# Altium integrated library rodgel.IntLib: 579 symbols (part 4 of 4)
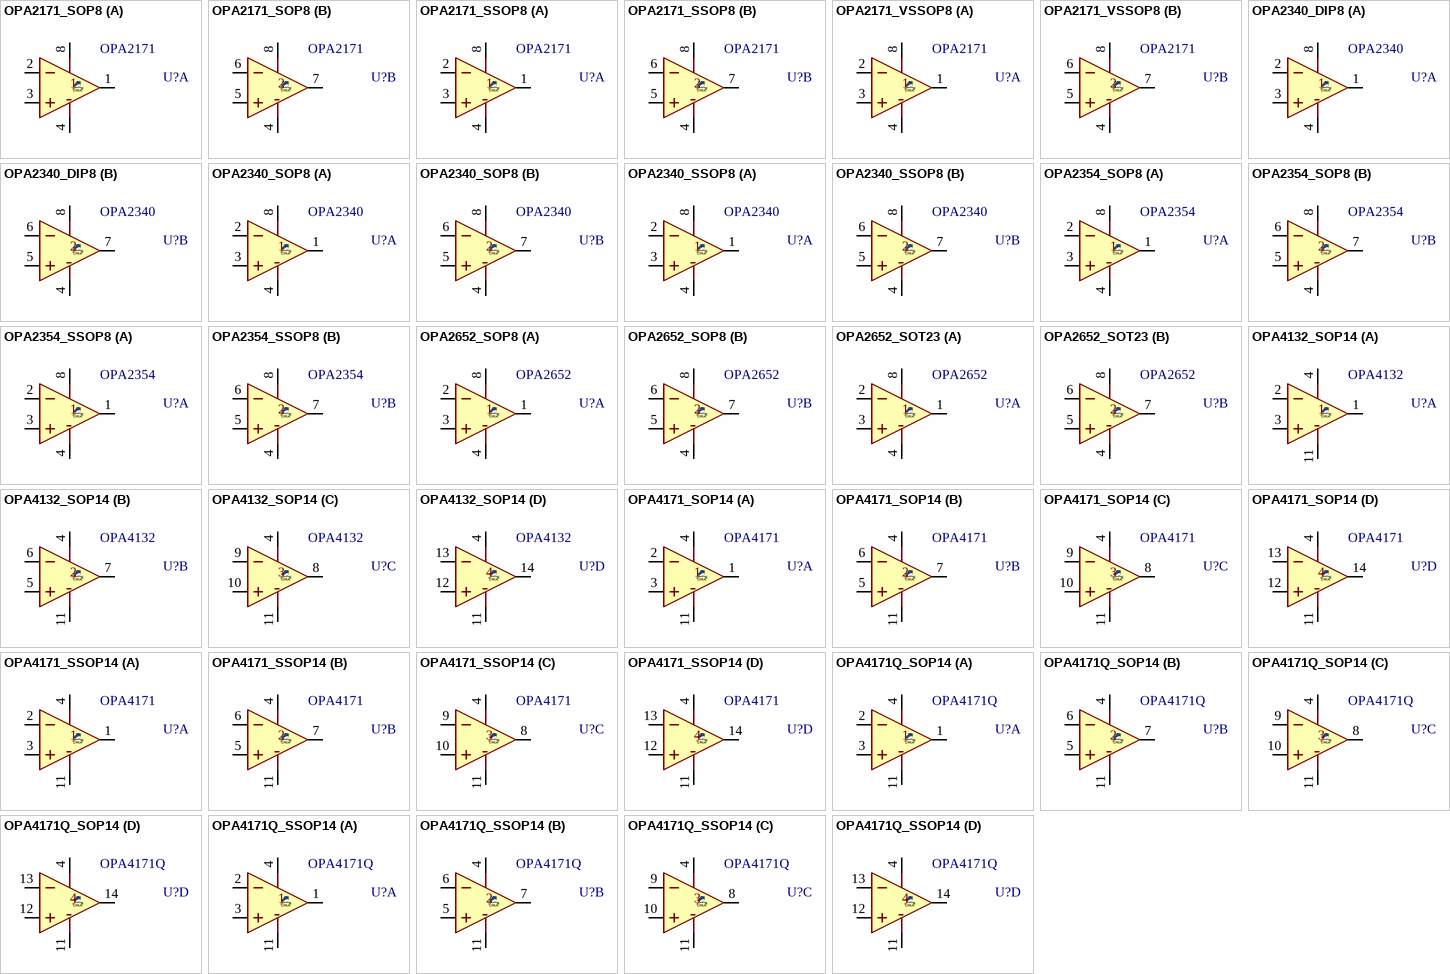
[diagram p20: symbols OPA2171_SOP8 to OPA4171Q_SSOP14]

## OPA4171Q_SSOP14
designator U?, comment OPA4171Q
AMP, Low Noise, Low Drift, Single-Supply; MANF: Texas Instruments; MANF_P#: OPA4171AQPWRQ1; PARAM2: 2.7~36V, ±1.35~±18V, 3MHz BW; PARAM: 8pA input, 14nV/√Hz, -40~125°C; PRICE: 3$; VALUE: OPA4171Q
footprint SOG65_14 (PW TSSOP (TI), MO-153-AB (JEDEC), 14Lead, pitch: 0.65mm, 5x4.4x1.2mm)
part A pins: 1 OUT, 2 IN-, 3 IN+, 4 V+, 11 V-
part B pins: 4 V+, 5 IN+, 6 IN-, 7 OUT, 11 V-
part C pins: 4 V+, 8 OUT, 9 IN-, 10 IN+, 11 V-
part D pins: 4 V+, 11 V-, 12 IN+, 13 IN-, 14 OUT

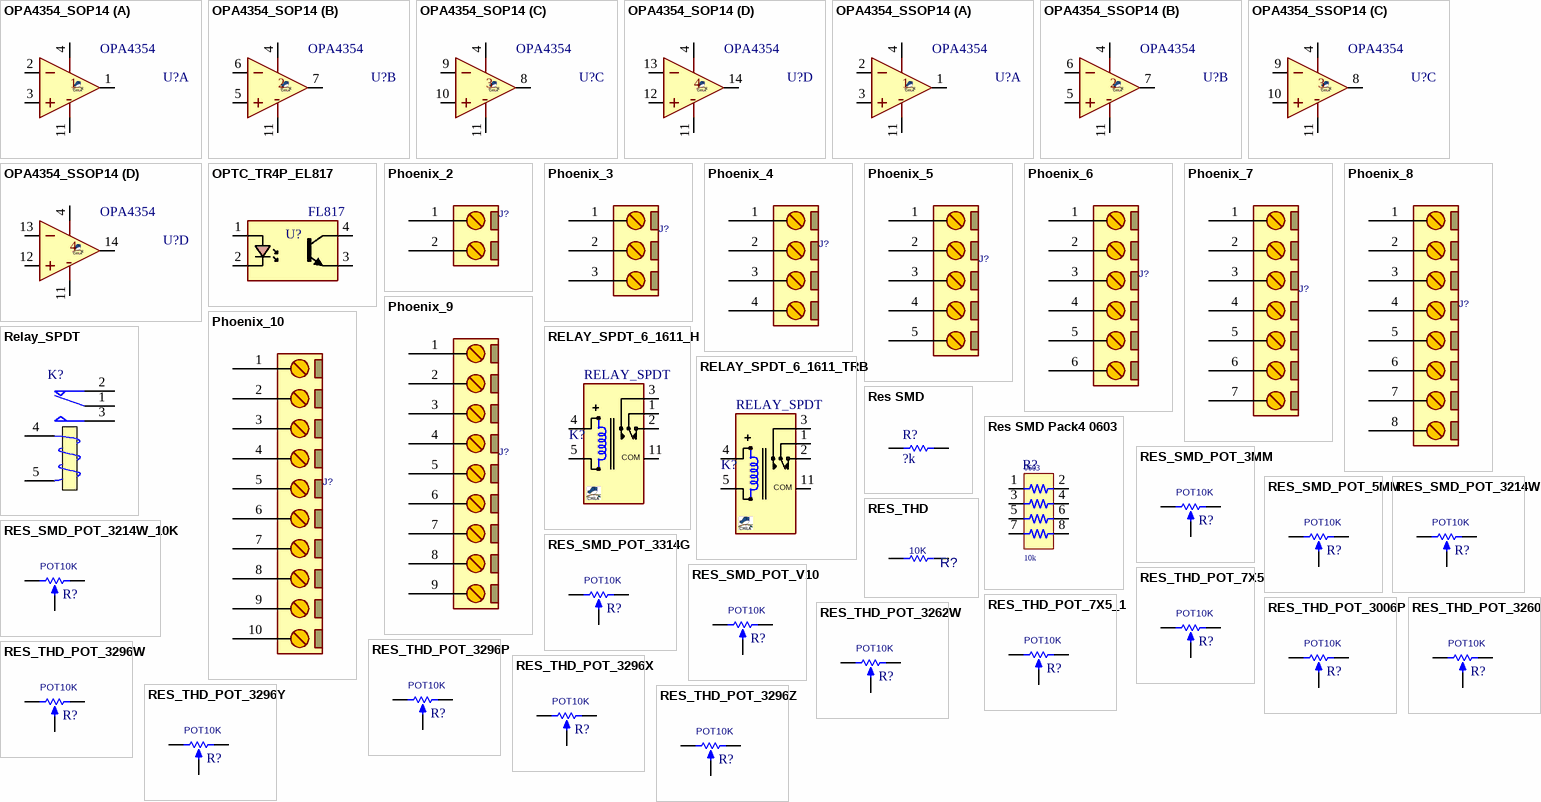
[diagram p14: symbols OPA4354_SOP14 to RES_THD_POT_3296Z]

## OPA4354_SOP14
designator U?, comment OPA4354
AMP, Low Noise, Rail-to-Rail, Single-Supply; MANF: Texas Instruments; MANF_P#: OPA4354AID; PARAM2: 2.5~5.5V, 6.5nV/√Hz, 250MHz BW; PARAM: 100mA out, 3pA in, 150v/us, -40~125°C; PRICE: 3.8$; VALUE: OPA4354
footprint SO_14 (SOP, SOIC, 3.9mm width, 1.27mm pitch,)
part A pins: 1 OUT, 2 IN-, 3 IN+, 4 V+, 11 V-
part B pins: 4 V+, 5 IN+, 6 IN-, 7 OUT, 11 V-
part C pins: 4 V+, 8 OUT, 9 IN-, 10 IN+, 11 V-
part D pins: 4 V+, 11 V-, 12 IN+, 13 IN-, 14 OUT

## OPA4354_SSOP14
designator U?, comment OPA4354
AMP, Low Noise, Rail-to-Rail, Single-Supply; MANF: Texas Instruments; MANF_P#: OPA4354AIPW; PARAM2: 2.5~5.5V, 6.5nV/√Hz, 250MHz BW; PARAM: 100mA out, 3pA in, 150v/us, -40~125°C; PRICE: 3.8$; VALUE: OPA4354
footprint SOG65_14 (PW TSSOP (TI), MO-153-AB (JEDEC), 14Lead, pitch: 0.65mm, 5x4.4x1.2mm)
part A pins: 1 OUT, 2 IN-, 3 IN+, 4 V+, 11 V-
part B pins: 4 V+, 5 IN+, 6 IN-, 7 OUT, 11 V-
part C pins: 4 V+, 8 OUT, 9 IN-, 10 IN+, 11 V-
part D pins: 4 V+, 11 V-, 12 IN+, 13 IN-, 14 OUT

## OPTC_TR4P_EL817
designator U?, comment FL817
OPTOCOUPLER, TRANSISTOR, 4PIN; PRICE: PRICE; VALUE: FL817
footprint DIP_4 (BRIDGE DIODE, DIP, pitch 2.54mm, 300mil Width)
pins: 1 A "Anode", 2 K "Cathode", 3 E "Emitter", 4 C "Collector"

## Phoenix_2
designator J?, comment CONN_TB2  (value not drawn)
CONN, PHOENIX MSTB, 5-G, 5.08mm pitch; VALUE: CONN_TB2
footprint P_MSTB_2 (PHOENIX MSTB 2, 5-G, 5.08mm pitch, 2pin)
footprint P_MSTBF_2 (PHOENIX MSTB 2, 5-G, 5.08mm pitch, 2pin)
pins: 1, 2

## Phoenix_3
designator J?, comment CONN_TB3  (value not drawn)
CONN, PHOENIX MSTB, 5-G, 5.08mm pitch; VALUE: CONN_TB3
footprint P_MSTB_3 (PHOENIX MSTB 2, 5-G, 5.08mm pitch, 3pin)
footprint P_MSTBF_3 (PHOENIX MSTB 2, 5-G, 5.08mm pitch, 3pin)
pins: 1, 2, 3

## Phoenix_4
designator J?, comment CONN_TB4  (value not drawn)
CONN, PHOENIX MSTB, 5-G, 5.08mm pitch; VALUE: CONN_TB4
footprint P_MSTB_4 (PHOENIX MSTB 2, 5-G, 5.08mm pitch)
footprint P_MSTBF_4 (PHOENIX MSTB 2, 5-G, 5.08mm pitch)
pins: 1, 2, 3, 4

## Phoenix_5
designator J?, comment CONN_TB5  (value not drawn)
CONN, PHOENIX MSTB, 5-G, 5.08mm pitch; VALUE: CONN_TB5
footprint P_MSTB_5 (PHOENIX MSTB 2, 5-G, 5.08mm pitch)
footprint P_MSTBF_5 (PHOENIX MSTB 2, 5-G, 5.08mm pitch)
pins: 1, 2, 3, 4, 5

## Phoenix_6
designator J?, comment CONN_TB6  (value not drawn)
CONN, PHOENIX MSTB, 5-G, 5.08mm pitch; VALUE: CONN_TB6
footprint P_MSTB_6 (PHOENIX MSTB 2, 5-G, 5.08mm pitch)
footprint P_MSTBF_6 (PHOENIX MSTB 2, 5-G, 5.08mm pitch)
pins: 1, 2, 3, 4, 5, 6

## Phoenix_7
designator J?, comment CONN_TB7  (value not drawn)
CONN, PHOENIX MSTB, 5-G, 5.08mm pitch; VALUE: CONN_TB7
footprint P_MSTB_7 (PHOENIX MSTB 2, 5-G, 5.08mm pitch)
footprint P_MSTBF_7 (PHOENIX MSTB 2, 5-G, 5.08mm pitch)
pins: 1, 2, 3, 4, 5, 6, 7

## Phoenix_8
designator J?, comment CONN_TB8  (value not drawn)
CONN, PHOENIX MSTB, 5-G, 5.08mm pitch; VALUE: CONN_TB8
footprint P_MSTB_8 (PHOENIX MSTB 2, 5-G, 5.08mm pitch)
footprint P_MSTBF_8 (PHOENIX MSTB 2, 5-G, 5.08mm pitch)
pins: 1, 2, 3, 4, 5, 6, 7, 8

## Phoenix_9
designator J?, comment CONN_TB9  (value not drawn)
CONN, PHOENIX MSTB, 5-G, 5.08mm pitch; VALUE: CONN_TB9
footprint P_MSTB_9 (PHOENIX MSTB 2, 5-G, 5.08mm pitch)
footprint P_MSTBF_9 (PHOENIX MSTB 2, 5-G, 5.08mm pitch)
pins: 1, 2, 3, 4, 5, 6, 7, 8, 9

## Phoenix_10
designator J?, comment CONN_TB10  (value not drawn)
CONN, PHOENIX MSTB, 5-G, 5.08mm pitch; VALUE: CONN_TB10
footprint P_MSTB_10 (PHOENIX MSTB 2, 5-G, 5.08mm pitch)
footprint P_MSTBF_10 (PHOENIX MSTB 2, 5-G, 5.08mm pitch)
pins: 1, 2, 3, 4, 5, 6, 7, 8, 9, 10

## Relay_SPDT
designator K?
Single-Pole Dual-Throw Relay; Designer: Abbas Basereh; Mounting Technology: Through-Hole; ComponentLink1Description: Datasheet; Pin Count: 0; Update Date: 2017-3-1
footprint Relay 18.85x15.35x15.70
pins: 1 COM, 2 NC, 3 NO, 4 T1, 5 T2

## RELAY_SPDT_6_1611_H
designator K?, comment RELAY_SPDT
Relay, SPDT, 5P, 15.7X11mm, HFD41 240VAC/1A; MANF: HONGFA; MANF_P#: HFD41-09, HK4100F; PARAM2: 1A, 240VAC/30VDC; PARAM: 9V, 40mA, 220Ohm; PRICE: 1.7$; Value: RELAY_SPDT
footprint REL_SPDT_6_1611 (Footprint not found)
simulation model SPDTRELAY (Spice Subcircuit)
pins: 1 COM, 2 NC, 3 NO, 4 T1, 5 T2, 11 COM

## RELAY_SPDT_6_1611_TRB
designator K?, comment RELAY_SPDT
Relay, SPDT, 5P, 15.5X11mm, TRB 125VAC/1A; MANF: TTI; MANF_P#: TRB-12VDC-A; PARAM2: 1A, 125VAC/30VDC; PARAM: 12V, 17mA, 720Ohm; PRICE: -; Value: RELAY_SPDT
footprint REL_SPDT_6_1611 (Footprint not found)
simulation model SPDTRELAY (Spice Subcircuit)
pins: 1 COM, 2 NC, 3 NO, 4 T1, 5 T2, 11 COM

## Res SMD
designator R?, comment ?k
TOTAL SMD RESISTOR PACK; Designer: Abbas Basereh; Category: Resistor; Value: ?k; Package: all package
footprint RES0201 (Chip Resistor, 2-Leads, Body 0/60x0/30mm, IPC Medium Density DESIGNER:ABBAS BASEREH)
footprint RES0402 (Chip Resistor, 2-Leads, Body 1/00x0/50mm, IPC Medium Density DESIGNER:ABBAS BASEREH)
footprint RES0603 (Chip Resistor, 2-Leads, Body 1/60x0/80mm, IPC Medium Density DESIGNER:ABBAS BASEREH)
footprint RES0805 (Chip Resistor, 2-Leads, Body 2/00x1/25mm, IPC Medium Density DESIGNER:ABBAS BASEREH)
footprint RES1210 (Chip Resistor, 2-Leads, Body 3/20x2/50mm, IPC Medium Density DESIGNER:ABBAS BASEREH)
footprint RES1812 (Chip Resistor, 2-Leads, Body 4/50x3/20mm, IPC Medium Density DESIGNER:ABBAS BASEREH)
footprint RES2010 (Chip Resistor, 2-Leads, Body 5/00x2/50mm, IPC Medium Density DESIGNER:ABBAS BASEREH)
footprint RES2512 (Chip Resistor, 2-Leads, Body 6/40x3/20mm, IPC Medium Density DESIGNER:ABBAS BASEREH)
signal-integrity model RES SMD (SMD PACK)
footprint RES 1206 @ (Chip Resistor, 2-Leads, Body 4/80x1/70mm, IPC Medium Density-Design:Abbas Basereh)
pins: 1, 2

## Res SMD Pack4 0603
designator R?, comment Package: 0603  (hidden comment: 10k)
SMD Resistor Pack; Category: Resistor; Value: 10k
footprint RES PACK 4 0603 @
pins: 1, 2, 3, 4, 5, 6, 7, 8

## RES_SMD_POT_3MM
designator R?, comment POT10K
RESISTOR, SMD, Potentiometer, 3mm; VALUE: POT10K
footprint POTS_3MM (POT SMD, 3.0X3.0mm, Trimming PVG3A PVZ3A)
pins: 1 TOP, 2 TAP, 3 BOT

## RES_SMD_POT_5MM
designator R?, comment POT10K
RESISTOR, SMD, Potentiometer, 5mm; VALUE: POT10K
footprint POTS_5MM (POT SMD, 5.0X5.0mm, Trimming PVG5H)
pins: 1 TOP, 2 TAP, 3 BOT

## RES_SMD_POT_3214W
designator R?, comment POT10K
RESISTOR, SMD, Potentiometer; VALUE: POT10K
footprint POTS_3214W (POT SMD, 4.0X5.0mm, Trimming SM-42/43W 3214W)
pins: 1 TOP, 2 TAP, 3 BOT

## RES_SMD_POT_3214W_10K
designator R?, comment POT10K
RESISTOR, SMD, Potentiometer; MANF: Bourns; MANF_P#: 3214W-1-103G; PRICE: 3$; VALUE: POT10K
footprint POTS_3214W (POT SMD, 4.0X5.0mm, Trimming SM-42/43W 3214W)
pins: 1 TOP, 2 TAP, 3 BOT

## RES_SMD_POT_3314G
designator R?, comment POT10K
RESISTOR, SMD, Potentiometer; VALUE: POT10K
footprint POTS_3314G (POT SMD, 5.0X5.0mm, Trimming, 3314G)
pins: 1 TOP, 2 TAP, 3 BOT

## RES_SMD_POT_V10
designator R?, comment POT10K
RESISTOR, SMD, Potentiometer, 10mm; VALUE: POT10K
footprint POTS_V10MM (POT, TRIM, V-10 10mm SMD)
pins: 1 TOP, 2 TAP, 3 BOT

## RES_THD
designator R?, comment 10K
RESISTOR, THD; MANF_P#: RK73H1ETTP4701F; MANF: KOA SPEER; PARAM: 0.063W; DESC: DESCRIPTION; DIST#: MOUSER; PARAM2: 1%; ASSEMBLY: ASSEMBLY; PRICE: 100= 0.5$; VALUE: 10K
footprint R0125W_AX025 (RESISTOR 1/8 WATT, AXIAL0.25)
footprint R1W_AX06 (RESISTOR 1 WATT, AXIAL0.6)
footprint R2W_AX08 (RESISTOR 2 WATT, AXIAL0.8)
footprint R2W_AX_VER (RESISTOR 2 WATT, AXIAL0.8)
footprint R3W_AX09 (RESISTOR 3 WATT, AXIAL0.9)
footprint R4W_AX10 (RESISTOR 4 WATT, AXIAL1.0)
footprint R05W_AX05 (RESISTOR 0.5 WATT, AXIAL0.5)
footprint R5W_AX11 (RESISTOR 5 WATT, AXIAL1.1)
footprint R5W_VER (RESISTOR 5 WATT, AXIAL1.1)
footprint R025W_AX04 (RESISTOR 1/4 WATT, AXIAL0.4)
footprint R025W_AX_VER (RESISTOR 1/4 WATT, AXIAL0.4)
footprint R0125W_AX03 (RESISTOR 1/8 WATT, AXIAL0.3 INCH SPACING)
footprint R0125W_AX_VER (RESISTOR 1/8 WATT, AXIAL0.25)
footprint RWW2W_VER (RESISTOR 2 WATT, Wirewound)
footprint RWW10W_VER (RESISTOR 10 WATT, Wirewound)
footprint R10W_AX11 (RESISTOR 10 WATT, AXIAL1.1)
footprint R10W_AX14 (RESISTOR 10 WATT, AXIAL1.4)
footprint R10W_AX20 (RESISTOR 10 WATT, AXIAL2.0)
footprint RWW5W (Footprint not found)
footprint RWW5W_VER (Footprint not found)
pins: 1, 2

## RES_THD_POT_7X5
designator R?, comment POT10K
RESISTOR, THD, Potentiometer; VALUE: POT10K
footprint POT_7X5 (POT, TRIM, 7.5X5.0mm, pitch: 5.0mm)
pins: 1 TOP, 2 TAP, 3 BOT

## RES_THD_POT_7X5_1
designator R?, comment POT10K
RESISTOR, THD, Potentiometer; VALUE: POT10K
footprint POT_7X5 (POT, TRIM, 7.5X5.0mm, pitch: 5.0mm)
pins: 1 TOP, 2 TAP, 3 BOT

## RES_THD_POT_3006P
designator R?, comment POT10K
RESISTOR, THD, Potentiometer; VALUE: POT10K
footprint POT_3006P (POT, TRIM, 19.0X4.8mm 3006P)
pins: 1 TOP, 2 TAP, 3 BOT

## RES_THD_POT_3260H
designator R?, comment POT10K
RESISTOR, THD, Potentiometer; VALUE: POT10K
footprint POT_3260H (POT, TRIM, 4.3X6.3mm 3260H)
pins: 1 TOP, 2 TAP, 3 BOT

## RES_THD_POT_3262W
designator R?, comment POT10K
RESISTOR, THD, Potentiometer; VALUE: POT10K
footprint POT_3262W (POT, TRIM, 4.3X6.6mm 3262W)
pins: 1 TOP, 2 TAP, 3 BOT

## RES_THD_POT_3296P
designator R?, comment POT10K
RESISTOR, THD, Potentiometer; VALUE: POT10K
footprint POT_3296P (POT, TRIM, 9.5X9.5mm HORIZENTAL 3296P)
pins: 1 TOP, 2 TAP, 3 BOT

## RES_THD_POT_3296W
designator R?, comment POT10K
RESISTOR, THD, Potentiometer; VALUE: POT10K
footprint POT_3296W (POT, TRIM, 10.0X5.0mm, pitch: 2.5mm 3299W 3296W S64W)
pins: 1 TOP, 2 TAP, 3 BOT

## RES_THD_POT_3296X
designator R?, comment POT10K
RESISTOR, THD, Potentiometer; VALUE: POT10K
footprint POT_3296X (POT, TRIM, 10.0X5.0mm, pitch: 2.5mm, MURATA, PV36X 3296X)
pins: 1 TOP, 2 TAP, 3 BOT

## RES_THD_POT_3296Y
designator R?, comment POT10K
RESISTOR, THD, Potentiometer; VALUE: POT10K
footprint POT_3296Y (POT, TRIM, 10.0X5.0mm, pitch: 2.5mm, MURATA, PV36Y 3296Y S64Y)
pins: 1 TOP, 2 TAP, 3 BOT

## RES_THD_POT_3296Z
designator R?, comment POT10K
RESISTOR, THD, Potentiometer; VALUE: POT10K
footprint POT_3296Z (POT, TRIM, 10.0X5.0mm, pitch: 2.5mm, 3296Z)
pins: 1 TOP, 2 TAP, 3 BOT

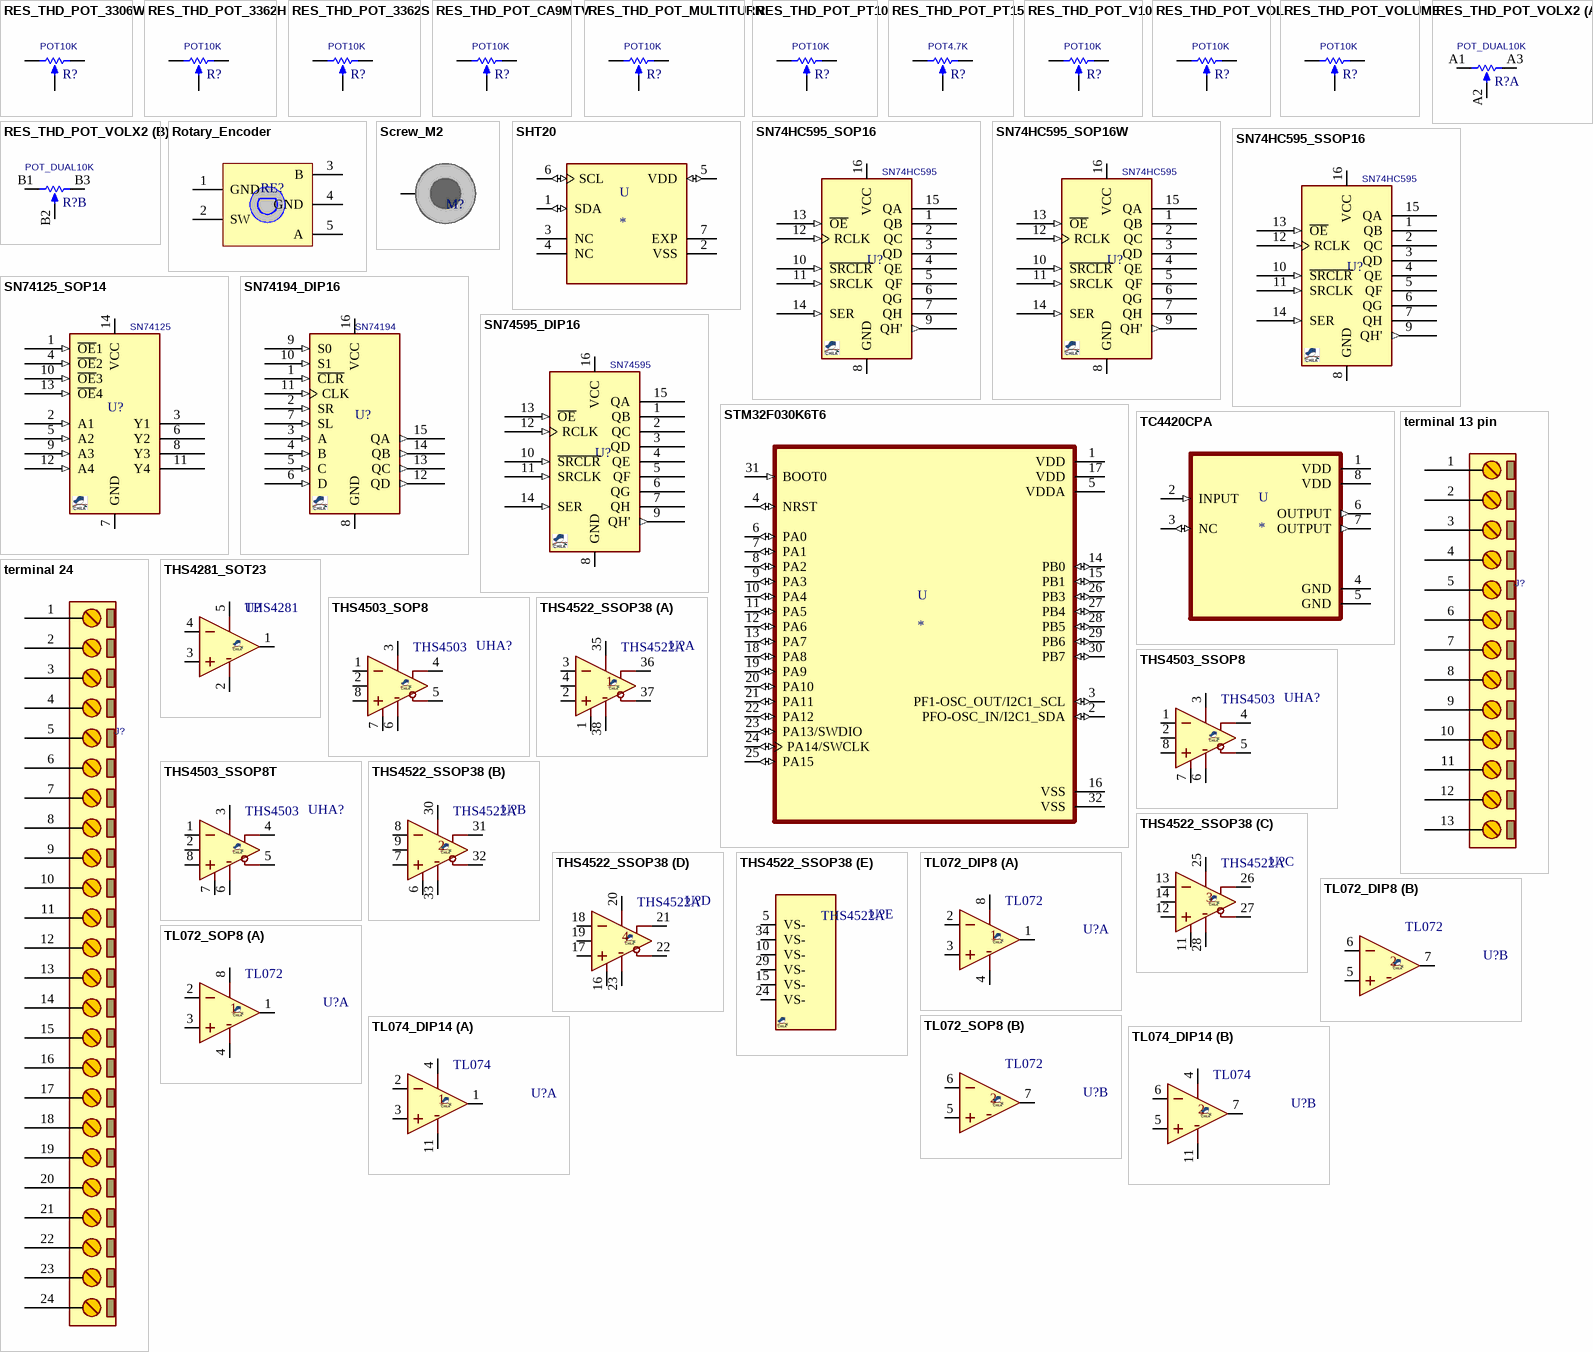
[diagram p15: symbols RES_THD_POT_3306W to TL074_DIP14]

## RES_THD_POT_3306W
designator R?, comment POT10K
RESISTOR, THD, Potentiometer; VALUE: POT10K
footprint POT_3306W (POT, TRIM, 4.5X6.8mm 3306W)
pins: 1 TOP, 2 TAP, 3 BOT

## RES_THD_POT_3362H
designator R?, comment POT10K
RESISTOR, THD, Potentiometer; VALUE: POT10K
footprint POT_3362H (POT, TRIM, 6.6X6.8mm 3362H, 3362P, 3362R)
pins: 1 TOP, 2 TAP, 3 BOT

## RES_THD_POT_3362S
designator R?, comment POT10K
RESISTOR, THD, Potentiometer; VALUE: POT10K
footprint POT_3362S (POT, TRIM, 4.3X6.6mm 3362S)
pins: 1 TOP, 2 TAP, 3 BOT

## RES_THD_POT_CA9MTV
designator R?, comment POT10K
RESISTOR, THD, Potentiometer; VALUE: POT10K
footprint POT_CA9MTV (POT, TRIM, 10.0X10.0mm, CA9MTV)
pins: 1 TOP, 2 TAP, 3 BOT

## RES_THD_POT_MULTITURN
designator R?, comment POT10K
RESISTOR, THD, Potentiometer Multiturn, most Popular; VALUE: POT10K
footprint POT_3296W (POT, TRIM, 10.0X5.0mm, pitch: 2.5mm 3299W 3296W S64W)
pins: 1 TOP, 2 TAP, 3 BOT

## RES_THD_POT_PT10
designator R?, comment POT10K
RESISTOR, THD, Potentiometer, PT-10 10mm; MANF: PIHER; MANF_P#: PT10LV10K; PARAM2: 150mW; PARAM: 20%, -25~70oC; PRICE: 0.6$; VALUE: POT10K
footprint POT_PIHER10MM (POT, TRIM, PIHER PT-10 10mm)
pins: 1 TOP, 2 TAP, 3 BOT

## RES_THD_POT_PT15
designator R?, comment POT4.7K
RESISTOR, THD, Potentiometer, PT-15 15mm; MANF: PIHER; MANF_P#: PT15NV15; PARAM2: 150mW; PARAM: 20%, -25~70oC; PRICE: 0.6$; VALUE: POT4.7K
footprint POT_PIHER15MM (POT, TRIM, PIHER PT-15 15mm)
pins: 1 TOP, 2 TAP, 3 BOT

## RES_THD_POT_V10
designator R?, comment POT10K
RESISTOR, THD, Potentiometer, V10 10mm; MANF: -; MANF_P#: -; PARAM2: -; PARAM: -; PRICE: 0.6$; VALUE: POT10K
footprint POT_V10MM (POT, TRIM, V-10 10mm)
pins: 1 TOP, 2 TAP, 3 BOT

## RES_THD_POT_VOL
designator R?, comment POT10K
RESISTOR, THD, Potentiometer Volume; VALUE: POT10K
footprint VOL_R (VOULME RIGHT ANGLE)
footprint VOL_9MM (VOULME  9mm Alpha Alps, RV09ACF EVUF)
footprint VOL_14MM (VOULME  14mm, RV141F-40E3)
footprint VOL_3590S (VOULME 3590S)
pins: 1 TOP, 2 TAP, 3 BOT

## RES_THD_POT_VOLUME
designator R?, comment POT10K
RESISTOR, THD, Potentiometer Volume; VALUE: POT10K
footprint VOL_R (VOULME RIGHT ANGLE)
pins: 1 TOP, 2 TAP, 3 BOT

## RES_THD_POT_VOLX2
designator R?, comment POT_DUAL10K
RESISTOR, THD, Potentiometer Volume DUAL; VALUE: POT_DUAL10K
footprint VOL_DUAL (VOULME RIGHT ANGLE DUAL 3RP/1610G)
part A pins: A1 TOP, A2 TAP, A3 BOT
part B pins: B1 TOP, B2 TAP, B3 BOT

## Rotary_Encoder
designator RE?
Designer: ahmadi; Value: Rotary_Encoder; Category: Switch
footprint Rotary Encoder (Alps Enkoder+ sw)
pins: 1 GND, 2 SW, 3 B, 4 GND, 5 A

## Screw_M2
designator M?, comment DNP/MH  (value not drawn)  (no BOM)
SCREW mouting, M2, 2.0mm diameter and 4.0mm PanHead; ASSEMBLY: DNP; VALUE: DNP/MH
footprint Screw-M2 (SCREW mouting, M2, 2.0mm diameter and 4.0mm PanHead)
pins: 1

## SHT20
designator U
SENSOR HUMID/TEMP 3V I2C 3% SMD; MP: SHT20; MF: Sensirion AG; Package: DFN-6 Sensirion; Availability: Unavailable; Price: None; SnapEDA_Link: https://www.snapeda.com/parts/SHT20/Sensirion%20AG/view-part/53498/?ref=snap; Value: *
footprint SHT20
pins: 1 SDA (io), 2 VSS (power), 3 NC, 4 NC, 5 VDD (io), 6 SCL (io), 7 EXP

## SN74HC595_SOP16
designator U?, comment SN74HC595
Shift Register, 8-Bit, with 3-State Output Registers; MANF: Texas Instruments; MANF_P#: SN74HC595D; PARAM2: 2~6VIN; PARAM: 8mA; VALUE: SN74HC595
footprint SO_16 (SOP, SOIC, 3.9mm width, 1.27mm pitch,)
footprint DIP_16 (DIP, pitch 2.54mm, 300mil Width)
pins: 1 QB (hiz), 2 QC (hiz), 3 QD (hiz), 4 QE (hiz), 5 QF (hiz), 6 QG (hiz), 7 QH (hiz), 8 GND (power), 9 QH' (out), 10 ~{SRCLR} (in), 11 SRCLK (in), 12 RCLK (in), 13 ~{OE} (in), 14 SER (in), 15 QA (hiz), 16 VCC (power)

## SN74HC595_SOP16W
designator U?, comment SN74HC595
Shift Register, 8-Bit, with 3-State Output Registers; MANF: Texas Instruments; MANF_P#: SN74HC595DW; PARAM2: 2~6VIN; PARAM: 8mA; VALUE: SN74HC595
footprint SO_16_W (SOP, SOIC, 7.5mm width, 1.27mm pitch,)
pins: 1 QB (hiz), 2 QC (hiz), 3 QD (hiz), 4 QE (hiz), 5 QF (hiz), 6 QG (hiz), 7 QH (hiz), 8 GND (power), 9 QH' (out), 10 ~{SRCLR} (in), 11 SRCLK (in), 12 RCLK (in), 13 ~{OE} (in), 14 SER (in), 15 QA (hiz), 16 VCC (power)

## SN74HC595_SSOP16
designator U?, comment SN74HC595
Shift Register, 8-Bit, with 3-State Output Registers; MANF: Texas Instruments; MANF_P#: SN74HC595PW; PARAM2: 2~6VIN; PARAM: 8mA; VALUE: SN74HC595
footprint SOG65_16 (PW TSSOP (TI), MO-153-AB (JEDEC), 16Lead, pitch: 0.65mm, 5x4.4x1.2mm)
pins: 1 QB (hiz), 2 QC (hiz), 3 QD (hiz), 4 QE (hiz), 5 QF (hiz), 6 QG (hiz), 7 QH (hiz), 8 GND (power), 9 QH' (out), 10 ~{SRCLR} (in), 11 SRCLK (in), 12 RCLK (in), 13 ~{OE} (in), 14 SER (in), 15 QA (hiz), 16 VCC (power)

## SN74125_SOP14
designator U?, comment SN74125
Shift Register, 4-Bit; MANF_P#: SN74125; VALUE: SN74125
footprint SO_14 (SOP, SOIC, 3.9mm width, 1.27mm pitch,)
pins: 1 ~{OE}1 (in), 2 A1 (in), 3 Y1 (hiz), 4 ~{OE}2 (in), 5 A2 (in), 6 Y2 (hiz), 7 GND (power), 8 Y3 (hiz), 9 A3 (in), 10 ~{OE}3 (in), 11 Y4 (hiz), 12 A4 (in), 13 ~{OE}4 (in), 14 VCC (power)

## SN74194_DIP16
designator U?, comment SN74194
Shift Register, 4-Bit, Bidirectional Universal; MANF_P#: SN74194N; VALUE: SN74194
footprint DIP_16 (DIP, pitch 2.54mm, 300mil Width)
pins: 1 ~{CLR} (in), 2 SR (in), 3 A (in), 4 B (in), 5 C (in), 6 D (in), 7 SL (in), 8 GND (power), 9 S0 (in), 10 S1 (in), 11 CLK (in), 12 QD (out), 13 QC (out), 14 QB (out), 15 QA (out), 16 VCC (power)

## SN74595_DIP16
designator U?, comment SN74595
Shift Register, 8-Bit, with 3-State Output Registers; PARAM2: 2~6VIN; PARAM: 8mA; MANF_P#: SN74595; VALUE: SN74595
footprint DIP_16 (DIP, pitch 2.54mm, 300mil Width)
pins: 1 QB (hiz), 2 QC (hiz), 3 QD (hiz), 4 QE (hiz), 5 QF (hiz), 6 QG (hiz), 7 QH (hiz), 8 GND (power), 9 QH' (out), 10 ~{SRCLR} (in), 11 SRCLK (in), 12 RCLK (in), 13 ~{OE} (in), 14 SER (in), 15 QA (hiz), 16 VCC (power)

## STM32F030K6T6
designator U
ARMÂ® CortexÂ®-M0 STM32F0 Microcontroller IC 32-Bit 48MHz 32KB _32K x 8_ FLASH 32-LQFP _7x7_; MF: STMicroelectronics; MP: STM32F030K6T6; Price: None; SnapEDA_Link: https://www.snapeda.com/parts/STM32F030K6T6/STMicroelectronics/view-part/131742/?ref=snap; Availability: Unavailable; Package: LQFP-32 STMicroelectronics; Value: *
footprint QFP8
pins: 1 VDD (power), 2 PFO-OSC_IN/I2C1_SDA (io), 3 PF1-OSC_OUT/I2C1_SCL (io), 4 NRST (io), 5 VDDA (power), 6 PA0 (io), 7 PA1 (io), 8 PA2 (io), 9 PA3 (io), 10 PA4 (io), 11 PA5 (io), 12 PA6 (io), 13 PA7 (io), 14 PB0 (io), 15 PB1 (io), 16 VSS (power), 17 VDD (power), 18 PA8 (io), 19 PA9 (io), 20 PA10 (io), 21 PA11 (io), 22 PA12 (io), 23 PA13/SWDIO (io), 24 PA14/SWCLK (io), 25 PA15 (io), 26 PB3 (io), 27 PB4 (io), 28 PB5 (io), 29 PB6 (io), 30 PB7 (io), 31 BOOT0 (in), 32 VSS (power)

## TC4420CPA
designator U
Low-Side Gate Driver IC Non-Inverting 8-PDIP; MP: TC4420CPA; MF: Microchip; SnapEDA_Link: https://www.snapeda.com/parts/TC4420CPA/Microchip/view-part/53314/?ref=snap; DigiKey-Purchase-URL: https://snapeda.com/shop?store=DigiKey&id=53314; Availability: Unavailable; Price: None; Package: DIP-8 Microchip; Value: *
footprint DIP8SOP8 (DIP, 8-Leads, 0.300" lead span , 0.100" lead pitch)
pins: 1 VDD (power), 2 INPUT (in), 3 NC (io), 4 GND (power), 5 GND (power), 6 OUTPUT (out), 7 OUTPUT (out), 8 VDD (power)

## terminal 13 pin
designator J?, comment CONN_TB10  (value not drawn)
CONN, TERMINAL BLOCK, 5.08mm pitch; VALUE: CONN_TB10
footprint terminal -13p (javati)
pins: 1, 2, 3, 4, 5, 6, 7, 8, 9, 10, 11, 11, 12, 13

## terminal 24
designator J?, comment CONN_TB10  (value not drawn)
CONN, TERMINAL BLOCK, 5.08mm pitch; VALUE: CONN_TB10
footprint terminal -24p (javati)
pins: 1, 2, 3, 4, 5, 6, 7, 8, 9, 10, 11, 11, 12, 13, 14, 15, 16, 17, 18, 19, 20, 21, 22, 23, 24

## THS4281_SOT23
designator U?, comment THS4281
AMP, High Speed, Very Lo-Pwr, rail-to-rail; MANF: Texas Instruments; MANF_P#: THS4281DBV; VALUE: THS4281
footprint SOT23_5 (SOT-23-5, SOT25, SOT-25, DBV(R-PDSO-G5), TSOT23-5, SC-74A, SOT23-5, S5-T (LINEAR), MO-178AA, MO-193AB(JEDEC), MF05A (NS), TSOP-6(ON), UJ-5 (AD))
pins: 1 OUT, 2 V-, 3 IN+, 4 IN-, 5 V+

## THS4503_SOP8
designator UHA?, comment THS4503
AMP, Differential, Hi-Sp, Fully-Diff; MANF: Texas Instruments; PARAM: 300MHz BW; MANF_P#: THS4503ID; PRICE: 1= 11.26$; PARAM2: PARAM2; VALUE: THS4503
footprint SO_8
pins: 1 IN-, 2 VCM (power), 3 VS+ (power), 4 OUT+, 5 OUT-, 6 VS- (power), 7 PD#, 8 IN+

## THS4503_SSOP8
designator UHA?, comment THS4503
AMP, Differential, Hi-Sp, Fully-Diff; MANF: Texas Instruments; PARAM: 300MHz BW; MANF_P#: THS4503IDGK; PRICE: 1= 11.26$; PARAM2: PARAM2; VALUE: THS4503
footprint SOG65_8_3 (pitch: 0.65mm, 3.0mmX3.0mm, SSOP DCT SM8 (TI), TSSOP8, MICRO8, DGK, MSOP8, RM-8, MS8, MSOP-8, usop8/8uSOP)
pins: 1 IN-, 2 VCM (power), 3 VS+ (power), 4 OUT+, 5 OUT-, 6 VS- (power), 7 PD#, 8 IN+

## THS4503_SSOP8T
designator UHA?, comment THS4503
AMP, Differential, Hi-Sp, Fully-Diff; MANF: Texas Instruments; PARAM: 300MHz BW; MANF_P#: THS4503IDGN; PRICE: 1= 11.26$; PARAM2: PARAM2; VALUE: THS4503
footprint SOG65_8T_3
pins: 1 IN-, 2 VCM (power), 3 VS+ (power), 4 OUT+, 5 OUT-, 6 VS- (power), 7 PD#, 8 IN+

## THS4522_SSOP38
designator U?, comment THS4522A
AMP, Quad, Differential, Hi-Sp, Fully-Diff; MANF: Texas Instruments; MANF_P#: THS4524IDBT; PARAM: 145MHz BW; VALUE: THS4522A
footprint SOG50_38 (38L TSSOP (MAXIM),38Lead, pitch: 0.5mm, 10x4.4x1.2mm)
part A pins: 1 PD#1, 2 I1P, 3 I1N, 4 CM1 (power), 35 VS1+ (power), 36 O1P, 37 O1N, 38 VS1- (power)
part B pins: 6 PD#2, 7 I2P, 8 I2N, 9 CM2 (power), 30 VS2+ (power), 31 O2P, 32 O2N, 33 VS2- (power)
part C pins: 11 PD#3, 12 I3P, 13 I3N, 14 CM3 (power), 25 VS3+ (power), 26 O3P, 27 O3N, 28 VS3- (power)
part D pins: 16 PD#4, 17 I4P, 18 I4N, 19 CM4 (power), 20 VS4+ (power), 21 O4P, 22 O4N, 23 VS4- (power)
part E pins: 5 VS- (power), 10 VS- (power), 15 VS- (power), 24 VS- (power), 29 VS- (power), 34 VS- (power)

## TL072_DIP8
designator U?, comment TL072
AMP, Dual, Lo-Noise, JFET Input; MANF: Texas Instruments; MANF_P#: TL072IP; VALUE: TL072
footprint DIP_8 (DIP, pitch 2.54mm, 300mil Width)
part A pins: 1 OUT1, 2 IN1-, 3 IN2+, 4 V-, 8 V+
part B pins: 5 IN2+, 6 IN2-, 7 OUT2

## TL072_SOP8
designator U?, comment TL072
AMP, Dual, Lo-Noise, JFET Input; MANF: Texas Instruments; MANF_P#: TL072CDR, TL072IDR; VALUE: TL072
footprint SO_8
part A pins: 1 OUT1, 2 IN1-, 3 IN2+, 4 V-, 8 V+
part B pins: 5 IN2+, 6 IN2-, 7 OUT2

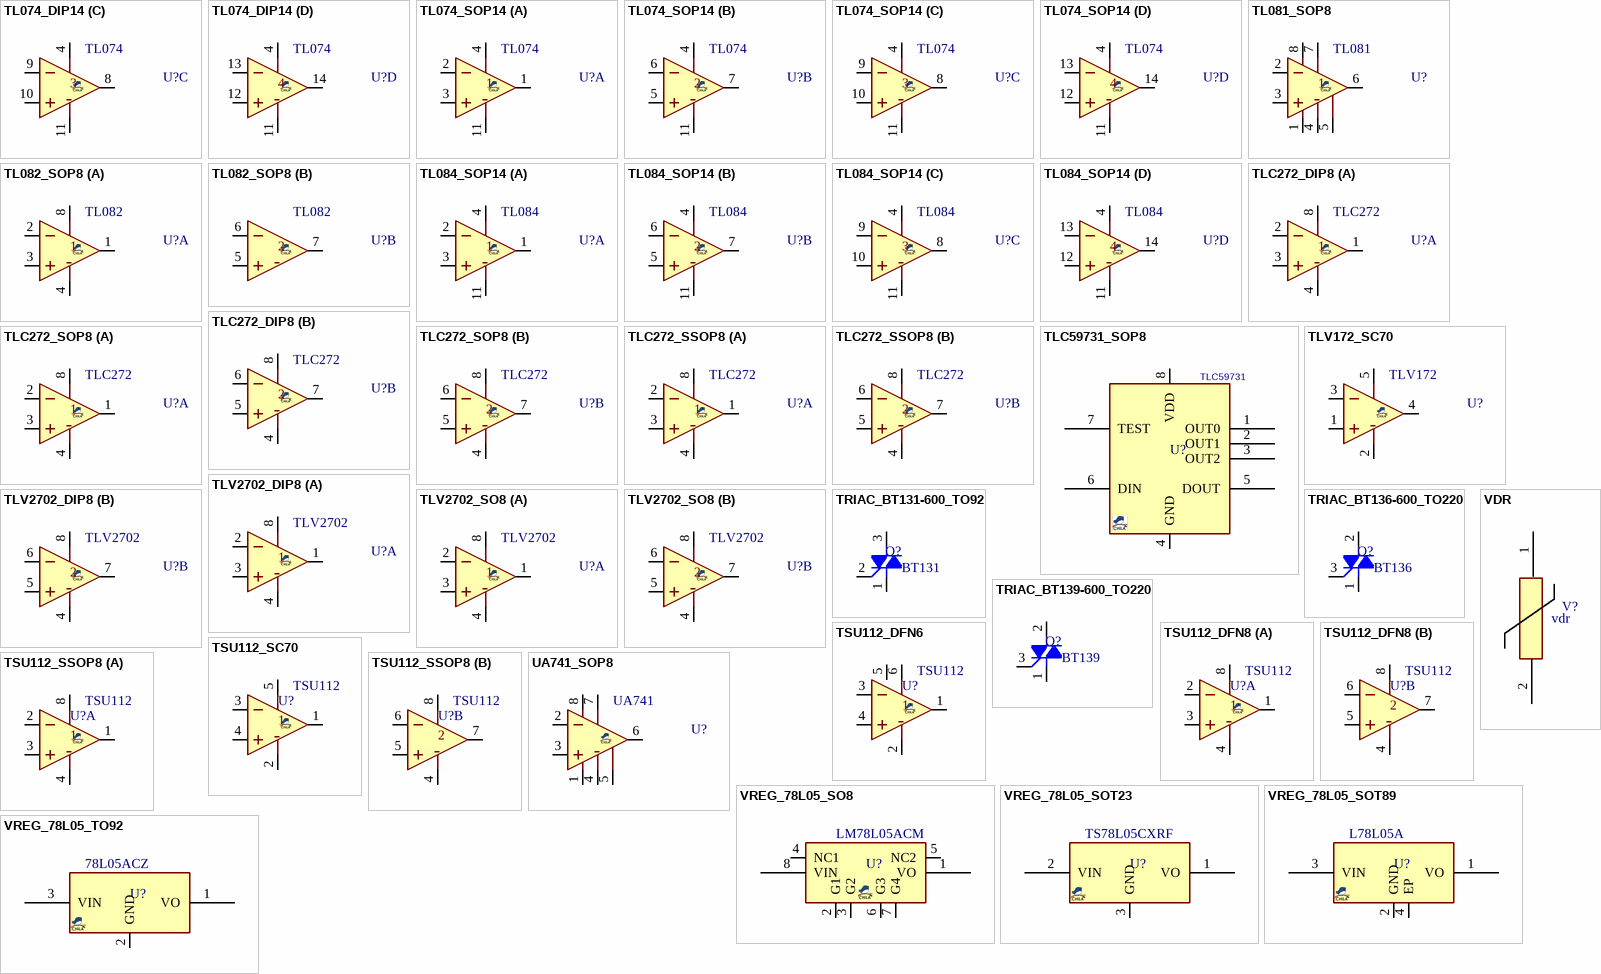
[diagram p16: symbols TL074_DIP14 to VREG_78L05_TO92]

## TL074_DIP14
designator U?, comment TL074
AMP, Quad, Low-Noise JFET-Input; MANF: Texas Instruments; MANF_P#: TL074CN, TL074BCN; VALUE: TL074
footprint DIP_14 (DIP, pitch 2.54mm, 300mil Width)
pins on every part: 4 V+, 11 V-
part A pins: 1 OUT, 2 IN-, 3 IN+
part B pins: 5 IN+, 6 IN-, 7 OUT
part C pins: 8 OUT, 9 IN-, 10 IN+
part D pins: 12 IN+, 13 IN-, 14 OUT

## TL074_SOP14
designator U?, comment TL074
AMP, Quad, Low-Noise JFET-Input; MANF: Texas Instruments, ST; MANF_P#: TL074CD, TL074ACD, TL074QDREP, TL074BCD, TL074ID, TL074MDEP; VALUE: TL074
footprint SO_14
pins on every part: 4 V+, 11 V-
part A pins: 1 OUT, 2 IN-, 3 IN+
part B pins: 5 IN+, 6 IN-, 7 OUT
part C pins: 8 OUT, 9 IN-, 10 IN+
part D pins: 12 IN+, 13 IN-, 14 OUT

## TL081_SOP8
designator U?, comment TL081
AMP, Dual, Lo-Noise, JFET Input; MANF: Texas Instruments, ST; MANF_P#: TL081A; VALUE: TL081
footprint SO_8
pins: 1 OFFSETN1, 2 IN1-, 3 IN2+, 4 V-, 5 OFFSETN2, 6 OUT, 7 V+, 8 NC

## TL082_SOP8
designator U?, comment TL082
AMP, Dual, Lo-Noise, JFET Input; MANF: Texas Instruments, ST; MANF_P#: TL082CD, TL082ID, TL082BCD, TL082CMX; VALUE: TL082
footprint SO_8
part A pins: 1 OUT1, 2 IN1-, 3 IN2+, 4 V-, 8 V+
part B pins: 5 IN2+, 6 IN2-, 7 OUT2

## TL084_SOP14
designator U?, comment TL084
AMP, Quad, Low-Noise JFET-Input, LowPower; MANF: Texas Instruments, ST; MANF_P#: TL084ID; PARAM2: ±18VCC, ±30Vindiff, -40~85oC; VALUE: TL084
footprint SO_14
pins on every part: 4 V+, 11 V-
part A pins: 1 OUT, 2 IN-, 3 IN+
part B pins: 5 IN+, 6 IN-, 7 OUT
part C pins: 8 OUT, 9 IN-, 10 IN+
part D pins: 12 IN+, 13 IN-, 14 OUT

## TLC272_DIP8
designator U?, comment TLC272
AMP, Dual,; MANF: Texas Instruments; MANF_P#: TLC272CP, TLC272IP; VALUE: TLC272
footprint DIP_8 (DIP, pitch 2.54mm, 300mil Width)
part A pins: 1 OUT, 2 IN-, 3 IN+, 4 V-, 8 V+
part B pins: 4 V-, 5 IN+, 6 IN-, 7 OUT, 8 V+

## TLC272_SOP8
designator U?, comment TLC272
AMP, Dual,; MANF: Texas Instruments; MANF_P#: TLC272CD, TLC272AID, TLC272ID, TLC272BID, TLC272CPS, TLC272BCD, TLC272AID; VALUE: TLC272
footprint SO_8
part A pins: 1 OUT, 2 IN-, 3 IN+, 4 V-, 8 V+
part B pins: 4 V-, 5 IN+, 6 IN-, 7 OUT, 8 V+

## TLC272_SSOP8
designator U?, comment TLC272
AMP, Dual,; MANF: Texas Instruments; MANF_P#: TLC272CPW; VALUE: TLC272
footprint SOG65_8 (PW TSSOP (TI), MO-153 (JEDEC), 8Lead, pitch: 0.65mm, 3x4.4x1.2mm)
part A pins: 1 OUT, 2 IN-, 3 IN+, 4 V-, 8 V+
part B pins: 4 V-, 5 IN+, 6 IN-, 7 OUT, 8 V+

## TLC59731_SOP8
designator U?, comment TLC59731
Signal line 256 Gray level 3-ch Constant current LED drive; MANF: Texas Instruments; MANF_P#: TLC59731D; PARAM2: 3.3/5VDD; PARAM: 50mA, 600Kbps, -40~+125℃; PRICE: 0.8$; VALUE: TLC59731
footprint SO_8 (SOP-8, 5x3.9mm body 1.27mm pitch, SOT96-1, M08A, S8, SOIC8, VO8, MS-012AA(JEDEC), R-8, 8S2, VOG8)
pins: 1 OUT0, 2 OUT1, 3 OUT2, 4 GND, 5 DOUT, 6 DIN, 7 TEST, 8 VDD

## TLV172_SC70
designator U?, comment TLV172
AMP, Lo-Noise, 10MHz; MANF: Texas Instruments; MANF_P#: TLV172IDCK; PARAM2: 4.5~36V/±2.25~±18V; PARAM: 10MHz, -40~125oC; PRICE: 1.1$; VALUE: TLV172
footprint SOT353_5 (SC-88A, SC70-5, SOT-353, DCK (TI), 0.65mm pitch 2X1.3mm body)
pins: 1 IN+, 2 V-, 3 IN-, 4 OUT, 5 V+

## TLV2702_DIP8
designator U?, comment TLV2702
AMP, Dual, nanoPWR, PUSH-PULL COMPARATORS; MANF: Texas Instruments; MANF_P#: TLV2702IP; VALUE: TLV2702
footprint DIP_8 (DIP, pitch 2.54mm, 300mil Width)
part A pins: 1 OUT, 2 IN-, 3 IN+, 4 V-, 8 V+
part B pins: 4 V-, 5 IN+, 6 IN-, 7 OUT, 8 V+

## TLV2702_SO8
designator U?, comment TLV2702
AMP, Dual, nanoPWR, PUSH-PULL COMPARATORS; MANF: Texas Instruments; MANF_P#: TLV2702ID; VALUE: TLV2702
footprint SO_8
part A pins: 1 OUT, 2 IN-, 3 IN+, 4 V-, 8 V+
part B pins: 4 V-, 5 IN+, 6 IN-, 7 OUT, 8 V+

## TRIAC_BT131-600_TO92
designator Q?, comment BT131
Triac, 600V, 1A, TO-92; MANF_P#: BT131-600; MANF: NXP; PRICE: 500toman@PAYA; VALUE: BT131
footprint TO92_3 (TO-92)
pins: 1 T1, 2 G, 3 T2

## TRIAC_BT136-600_TO220
designator Q?, comment BT136
Triac, 600V, 4A, TO-220; MANF_P#: BT136-600D, BT136-600E; MANF: NXP; PRICE: 700toman@PAYA; VALUE: BT136
footprint TO-220 @
footprint TO-220 hitsink @
pins: 1 T1, 2 T2, 3 G

## TRIAC_BT139-600_TO220
designator Q?, comment BT139
Triac, 600V, 16A, TO-220; MANF_P#: BT139-600E; MANF: NXP; PRICE: 2000toman@PAYA; VALUE: BT139
footprint TO-220 AB WITH HEAT SINK (Epoxy meets UL94, V0-Design:Abbas Basereh)
pins: 1 T1, 2 T2, 3 G

## TSU112_DFN6
designator U?, comment TSU112
AMP, Low-Power; MANF: STMicroelectronics; MANF_P#: TSU111IQ1T; PARAM2: 1.5~5.5VCC, 150uVoffset, 3.8uVin noise; PARAM: 10pA input, 900nA, -40~85°C; PRICE: 2$; VALUE: TSU112
footprint SON40_6_1213 (DFN6 1.2x1.3mm, 6-Leads, Pitch 0.40mm)
pins: 1 OUT, 2 V-, 3 IN-, 4 IN+, 5 NC, 6 V+

## TSU112_DFN8
designator U?, comment TSU112
AMP, DuaL, Low-Power; MANF: STMicroelectronics; MANF_P#: TSU112IQ2T; PARAM2: 1.5~5.5VCC, 150uVoffset, 3.8uVin noise; PARAM: 10pA input, 900nA, -40~85°C; PRICE: 2$; VALUE: TSU112
footprint SON50_8T_2X2 (DSG PWSON (TI), Pitch: 0.5mm 2x2x0.8mm with Thermal pad)
pins on every part: 4 V-, 8 V+
part A pins: 1 OUT, 2 IN-, 3 IN+
part B pins: 5 IN+, 6 IN-, 7 OUT

## TSU112_SC70
designator U?, comment TSU112
AMP, Low-Power; MANF: STMicroelectronics; MANF_P#: TSU111IQ1T; PARAM2: 1.5~5.5VCC, 150uVoffset, 3.8uVin noise; PARAM: 10pA input, 900nA, -40~85°C; PRICE: 2$; VALUE: TSU112
footprint SOT353_5 (SC-88A, SC70-5, TSSOP5, SOT-353, DCK (TI), 0.65mm pitch 2X1.3mm body)
pins: 1 OUT, 2 V-, 3 IN-, 4 IN+, 5 V+

## TSU112_SSOP8
designator U?, comment TSU112
AMP, Dual, Low-Power; MANF: STMicroelectronics; MANF_P#: TSU112IST; PARAM2: 1.5~5.5VCC, 150uVoffset, 3.8uVin noise; PARAM: 10pA input, 900nA, -40~85°C; PRICE: 2$; VALUE: TSU112
footprint SOG65_8_3 (TSSOP8, MICRO8, DGK VSSOP-8, pitch: 0.65mm, 3X3mm, MSOP8, RM-8, MS8, MSOP-8, TSSO3X5-G8/D3.1, 8 uMAX, usop8/8uSOP, MO-187AA, MO-153AA, SSOP DCT (TI))
pins on every part: 4 V-, 8 V+
part A pins: 1 OUT, 2 IN-, 3 IN+
part B pins: 5 IN+, 6 IN-, 7 OUT

## UA741_SOP8
designator U?, comment UA741
AMP, General-Purpose; MANF: ST, Texas Instruments; MANF_P#: UA741ID, UA741CDR; VALUE: UA741
footprint SO_8
pins: 1 OFFSET_NULL, 2 IN-, 3 IN+, 4 V-, 5 OFFSET_NULL, 6 OUT, 7 V+, 8 NC

## VDR
designator V?, comment vdr
REG, Linear, LDO1V, 0.8A, TO-252; MANF_P#: LM1117, LD1117, NCV1117; MANF: TI, ON, ST; PARAM2: 1.2/1.5/1.8/2.5/2.85/3.3/5V; PARAM: LDO1V, 0.8A; VALUE: vdr
footprint vdr (20N431)
pins: 1, 2

## VREG_78L05_SO8
designator U?, comment LM78L05ACM
REG, Linear, Fixed, 5v, 0.1A, SO-8; MANF_P#: LM78L05ACM, LM78L05AIM, UA78L05ACDR, UA78L05CDR, UA78L05AIDR, L78L05ABD, AP78L05SG, MC78L05ABD, MC78L05ACD, NCV78L05ABDG, TS78L05CS; MANF: TI, ST, FAIRCHILD, ON, TS; PARAM: 5v, 0.1A; PARAM2: PARAM2; VALUE: LM78L05ACM
footprint SO_8
pins: 1 VO, 2 G1, 3 G2, 4 NC1, 5 NC2, 6 G3, 7 G4, 8 VIN

## VREG_78L05_SOT23
designator U?, comment TS78L05CXRF
REG, Linear, Fixed, 5v, 0.1A, SOT-23; MANF: TS; PARAM: 12v, 0.1A; MANF_P#: TS78L05CXRF; PARAM2: PARAM2; VALUE: TS78L05CXRF
footprint SOT23_3 (SOT-23, Micro3, MO-178, TO-236AB, MO-193C, SuperSOT3, SC-59, DSO190_3_300X150)
pins: 1 VO, 2 VIN, 3 GND

## VREG_78L05_SOT89
designator U?, comment L78L05A
REG, Linear, Fixed, 5v, 0.1A, SOT-89; MANF_P#: L78L05ABUTR, L78L05ACUTR, MC78L05ACH; MANF: ST, FAIRCHILD; PARAM: 5v, 0.1A; PARAM2: PARAM2; VALUE: L78L05A
footprint SOT89_3 (SOT89, SOT-89, SBF-4089, SOT89A, GALI, SC-62, DF782, TO-243AA(JEDEC))
pins: 1 VO, 2 GND, 3 VIN, 4 EP

## VREG_78L05_TO92
designator U?, comment 78L05ACZ
REG, Linear, Fixed, 5v, 0.1A, TO-92; MANF_P#: LM78L05ACZ, LM78L05ACP, L78L05ACZ, WS78L05ACZ, AS78L05Z; MANF: TI, ST, WS, DIODES; PARAM: 5v, 0.1A; PARAM2: PARAM2; VALUE: 78L05ACZ
footprint TO92_3 (TO-92)
pins: 1 VO, 2 GND, 3 VIN

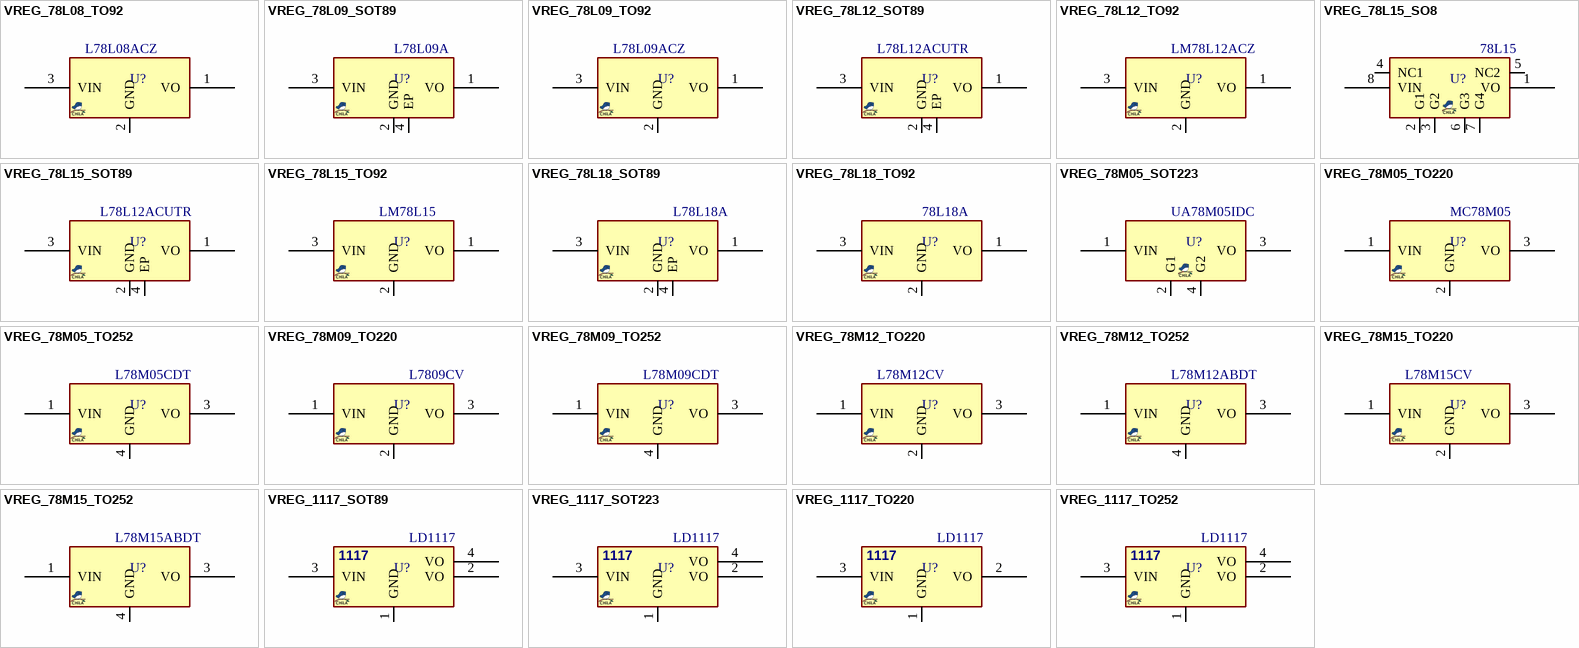
[diagram p17: symbols VREG_78L08_TO92 to VREG_1117_TO252]

## VREG_78L08_TO92
designator U?, comment L78L08ACZ
REG, Linear, Fixed, 8v, 0.1A, TO-92; MANF_P#: UA78L08ACLP, L78L08ABZ, L78L08ACZ, KA78L08AZTA, MC78L08ABP, MC78L08ACP; MANF: TI, ST, FAIRCHILD, ON; PARAM: 8v, 0.1A; PARAM2: PARAM2; VALUE: L78L08ACZ
footprint TO92_3 (TO-92)
pins: 1 VO, 2 GND, 3 VIN

## VREG_78L09_SOT89
designator U?, comment L78L09A
REG, Linear, Fixed, 9v, 0.1A, SOT-89; MANF_P#: L78L09ACUTR; MANF: ST; PARAM: 9v, 0.1A; PARAM2: PARAM2; VALUE: L78L09A
footprint SOT89_3 (SOT89, SOT-89, SBF-4089, SOT89A, GALI, SC-62, DF782, TO-243AA(JEDEC))
pins: 1 VO, 2 GND, 3 VIN, 4 EP

## VREG_78L09_TO92
designator U?, comment L78L09ACZ
REG, Linear, Fixed, 9v, 0.1A, TO-92; MANF: ST; MANF_P#: L78L09ACZ; PARAM: 9v, 0.1A; PARAM2: PARAM2; VALUE: L78L09ACZ
footprint TO92_3 (TO-92)
pins: 1 VO, 2 GND, 3 VIN

## VREG_78L12_SOT89
designator U?, comment L78L12ACUTR
REG, Linear, Fixed, 12v, 0.1A, SOT-89; MANF_P#: UA78L12ACPK, L78L12ACUTR; MANF: TI, ST; PARAM: 12v, 0.1A; PARAM2: PARAM2; VALUE: L78L12ACUTR
footprint SOT89_3 (SOT89, SOT-89, SBF-4089, SOT89A, GALI, SC-62, DF782, TO-243AA(JEDEC))
pins: 1 VO, 2 GND, 3 VIN, 4 EP

## VREG_78L12_TO92
designator U?, comment LM78L12ACZ
REG, Linear, Fixed, 12v, 0.1A, TO-92; MANF_P#: LM78L12ACZ, MC78L12ACPG; MANF: FAIRCHILD, ON; PARAM: 8v, 0.1A; PARAM2: PARAM2; VALUE: LM78L12ACZ
footprint TO92_3 (TO-92)
pins: 1 VO, 2 GND, 3 VIN

## VREG_78L15_SO8
designator U?, comment 78L15
REG, Linear, Fixed, 15v, 0.1A, SO-8; MANF_P#: LM78L15ACM; MANF: TI; PARAM: 15v, 0.1A; PARAM2: PARAM2; VALUE: 78L15
footprint SO_8
pins: 1 VO, 2 G1, 3 G2, 4 NC1, 5 NC2, 6 G3, 7 G4, 8 VIN

## VREG_78L15_SOT89
designator U?, comment L78L12ACUTR
REG, Linear, Fixed, 15v, 0.1A, SOT-89; MANF_P#: UA78L15ACPK, L78L15ACUTR; MANF: TI, ST; PARAM: 15v, 0.1A; PARAM2: PARAM2; VALUE: L78L12ACUTR
footprint SOT89_3 (SOT89, SOT-89, SBF-4089, SOT89A, GALI, SC-62, DF782, TO-243AA(JEDEC))
pins: 1 VO, 2 GND, 3 VIN, 4 EP

## VREG_78L15_TO92
designator U?, comment LM78L15
REG, Linear, Fixed, 15v, 0.1A, TO-92; MANF: TI; MANF_P#: LM78L15; PARAM: 15v, 0.1A; PARAM2: PARAM2; VALUE: LM78L15
footprint TO92_3 (TO-92)
pins: 1 VO, 2 GND, 3 VIN

## VREG_78L18_SOT89
designator U?, comment L78L18A
REG, Linear, Fixed, 18v, 0.1A, SOT-89; MANF_P#: L78L18ACUTR; MANF: ST; PARAM: 18v, 0.1A; PARAM2: PARAM2; VALUE: L78L18A
footprint SOT89_3 (SOT89, SOT-89, SBF-4089, SOT89A, GALI, SC-62, DF782, TO-243AA(JEDEC))
pins: 1 VO, 2 GND, 3 VIN, 4 EP

## VREG_78L18_TO92
designator U?, comment 78L18A
REG, Linear, Fixed, 18v, 0.1A, TO-92; MANF_P#: MC78L18ACPG; MANF: ON; PARAM: 18v, 0.1A; PARAM2: PARAM2; VALUE: 78L18A
footprint TO92_3 (TO-92)
pins: 1 VO, 2 GND, 3 VIN

## VREG_78M05_SOT223
designator U?, comment UA78M05IDC
REG, Linear, Fixed, 5v, 0.5A, SOT-223; MANF_P#: UA78M05IDCYR; MANF: TI; PARAM: 5v, 0.5A; PARAM2: PARAM2; VALUE: UA78M05IDC
footprint SOT223_4 (SOT223, 4-Leads, Body 6.5x3.5mm, Pitch 2.30mm)
pins: 1 VIN, 2 G1, 3 VO, 4 G2

## VREG_78M05_TO220
designator U?, comment MC78M05
REG, Linear, Fixed, 5v, 1.5A, TO-220; MANF_P#: LM78M05CT, LM7805CT, LM7805ACT, UA7805CKC, L7805ABV, L7805ACV, L7805CV, L78M05CV, KA78T05, KA7805ETU, MC78M05BT, MC78M05CT, MC7805ACT, MC7805ABT, NCP7805TG, NJM7805FA, TS7805CZ; MANF: TI, ST, FAIRCHILD, ON, NJR, TS; PARAM: 5v, 1.5A; PARAM2: PARAM2; VALUE: MC78M05
footprint TO220_3 (TO-220 3 LEAD, TO-262, pitch: 2.54mm  10x4.5mm)
pins: 1 VIN, 2 GND, 3 VO

## VREG_78M05_TO252
designator U?, comment L78M05CDT
REG, Linear, Fixed, 5v, 0.5A, TO-252; MANF_P#: LM78M05CDT, L7805CDT, MC7805BDT, MC78M05CDT, MC7805BDT, KA7805ERT, NCV7805BDT, BA7805FP, NJM7805DL1A, AS7805ADTR; MANF: TI, ST, FAIRCHILD, ON, NJR, ROHM, DIODES; PARAM: 5v, 0.5A; PARAM2: PARAM2; VALUE: L78M05CDT
footprint DPAK_3 (D-PAK (TO-252), 3-Pads, Body 6.2x6.7mm)
pins: 1 VIN, 3 VO, 4 GND

## VREG_78M09_TO220
designator U?, comment L7809CV
REG, Linear, Fixed, 9v, 1.5A, TO-220; MANF: ST; MANF_P#: L7809CV; PARAM: 9v, 1.5A; PARAM2: PARAM2; VALUE: L7809CV
footprint TO220_3 (TO-220 3 LEAD, TO-262, pitch: 2.54mm  10x4.5mm)
pins: 1 VIN, 2 GND, 3 VO

## VREG_78M09_TO252
designator U?, comment L78M09CDT
REG, Linear, Fixed, 9v, 0.5A, TO-252; MANF: ST; MANF_P#: L78M09CDT; PARAM: 9v, 0.5A; PARAM2: PARAM2; VALUE: L78M09CDT
footprint DPAK_3 (D-PAK (TO-252), 3-Pads, Body 6.2x6.7mm)
pins: 1 VIN, 3 VO, 4 GND

## VREG_78M12_TO220
designator U?, comment L78M12CV
REG, Linear, Fixed, 12v, 1.5A, TO220; MANF_P#: L78M12CV, MC78M12CTG, UA78M12CKC; MANF: TI, ST, ON; PARAM: 12v, 1.5A; PARAM2: PARAM2; VALUE: L78M12CV
footprint TO-220 @
footprint TO-220 AB (Epoxy meets UL94, V0-Design:Abbas Basereh)
footprint TO-220 AB S (Epoxy meets UL94, V0-Design:Abbas Basereh)
footprint TO-220 AB WITH HEAT SINK (Epoxy meets UL94, V0-Design:Abbas Basereh)
pins: 1 VIN, 2 GND, 3 VO

## VREG_78M12_TO252
designator U?, comment L78M12ABDT
REG, Linear, Fixed, 12v, 0.5A, TO-252; MANF_P#: MC78M12CDT, UA78M12CKV, MC78M12ABDT, L78M12CDT, MC78M12BDT, BA78M12FP, TS78M12CP; MANF: TI, ST, ON, ROHM, TS; PARAM: 12v, 0.5A; PARAM2: PARAM2; VALUE: L78M12ABDT
footprint DPAK_3 (D-PAK (TO-252), 3-Pads, Body 6.2x6.7mm)
pins: 1 VIN, 3 VO, 4 GND

## VREG_78M15_TO220
designator U?, comment L78M15CV
REG, Linear, Fixed, 15v, 1.5A, TO220; MANF: ST; MANF_P#: L78M15CV; PARAM: 15v, 1.5A; PARAM2: PARAM2; VALUE: L78M15CV
footprint TO220_3 (TO-220 3 LEAD, TO-262, pitch: 2.54mm  10x4.5mm)
pins: 1 VIN, 2 GND, 3 VO

## VREG_78M15_TO252
designator U?, comment L78M15ABDT
REG, Linear, Fixed, 15v, 0.5A, TO-252; MANF: ST; MANF_P#: L78M15ABDT; PARAM: 15v, 0.5A; PARAM2: PARAM2; VALUE: L78M15ABDT
footprint DPAK_3 (D-PAK (TO-252), 3-Pads, Body 6.2x6.7mm)
pins: 1 VIN, 3 VO, 4 GND

## VREG_1117_SOT89
designator U?, comment LD1117
REG, Linear, LDO1V, 0.8A, SOT-89; MANF_P#: AZ1117; MANF: DIODES; PARAM2: 1.2/1.5/1.8/2.5/2.85/3.3/5V; PARAM: LDO1V, 0.8A; VALUE: LD1117
footprint SOT89_3 (SOT89, SOT-89, SBF-4089, SOT89A, GALI, SC-62, DF782, TO-243AA(JEDEC))
pins: 1 GND, 2 VO, 3 VIN, 4 VO
text: 1117

## VREG_1117_SOT223
designator U?, comment LD1117
REG, Linear, LDO1V, 0.8A, SOT-223; MANF_P#: LD1117, LM1117, AMS1117, TLV1117, REG1117, NCP1117, LT1117, SPX1117; MANF: TI, ON, ST; PARAM2: 1.2/1.5/1.8/2.5/2.85/3.3/5V; PARAM: LDO1V, 0.8A; VALUE: LD1117
footprint SOT223_4 (SOT223, 4-Leads, Body 6.5x3.5mm, Pitch 2.30mm)
pins: 1 GND, 2 VO, 3 VIN, 4 VO
text: 1117

## VREG_1117_TO220
designator U?, comment LD1117
REG, Linear, LDO1V, 0.8A, TO-220; MANF_P#: LM1117T-2.5/NOPB; MANF: TI; PARAM2: 2.5V; PARAM: LDO1V, 0.8A; PRICE: 1.5$; VALUE: LD1117
footprint TO220_3 (TO-220 3 LEAD, TO-262, pitch: 2.54mm  10x4.5mm)
pins: 1 GND, 2 VO, 3 VIN
text: 1117

## VREG_1117_TO252
designator U?, comment LD1117
REG, Linear, LDO1V, 0.8A, TO-252; MANF_P#: LM1117, LD1117, NCV1117; MANF: TI, ON, ST; PARAM2: 1.2/1.5/1.8/2.5/2.85/3.3/5V; PARAM: LDO1V, 0.8A; VALUE: LD1117
footprint DPAK_3 (D-PAK (TO-252), 3-Pads, Body 6.2x6.7mm)
pins: 1 GND, 2 VO, 3 VIN, 4 VO
text: 1117